# Altium footprint library PilotMap2.PcbLib: 9 footprints
Each footprint in its own frame and in the unit in brackets; x right, y up, seen from the top. Pads: shape width x height; smd on the part's side, far side on the other; paste and mask are expansions set on the pad; w line width, h text height; cw(c..) or ccw(c..) is an arc to the next point about the centre after c.
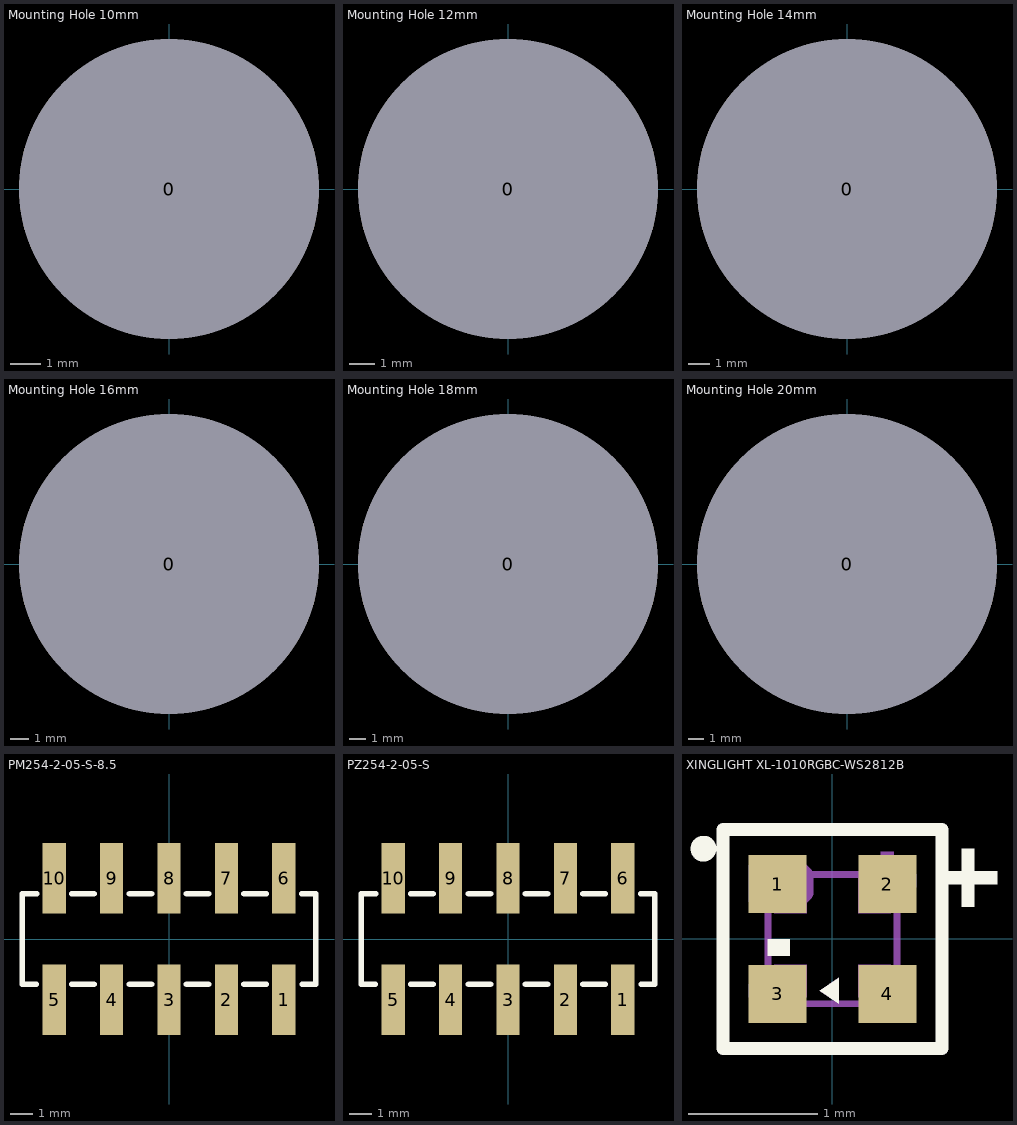
[diagram p0: the footprints below, top view; thin cyan lines are the x and y axes]

## Mounting Hole 10mm [mm]
pads (1):
  round 10 hole 10: 0(0,0)

## Mounting Hole 12mm [mm]
pads (1):
  round 12 hole 12: 0(0,0)

## Mounting Hole 14mm [mm]
pads (1):
  round 14 hole 14: 0(0,0)

## Mounting Hole 16mm [mm]
pads (1):
  round 16 hole 16: 0(0,0)

## Mounting Hole 18mm [mm]
pads (1):
  round 18 hole 18: 0(0,0)

## Mounting Hole 20mm [mm]
pads (1):
  round 20 hole 20: 0(0,0)

## PM254-2-05-S-8.5 [mm]
height 9.4
pads (10):
  rect 1.02x3.12 smd: 1(5.08,-2.69) 2(2.54,-2.69) 3(0,-2.69) 4(-2.54,-2.69) 5(-5.08,-2.69) 6(5.08,2.69) 7(2.54,2.69) 8(0,2.69) 9(-2.54,2.69) 10(-5.08,2.69)
Top Overlay:
  lines w0.254: -5.875,-2 -6.5,-2 -6.5,2 -5.85,2 ; -4.3,-2 -3.325,-2 ; -4.3,2 -3.325,2 ; -1.75,-2 -0.775,-2 ; -1.75,2 -0.775,2 ; 0.775,-2 1.75,-2 ; 0.775,2 1.75,2 ; 3.325,-2 4.3,-2 ; 3.325,2 4.3,2 ; 5.875,2 6.5,2 6.5,-2 5.9,-2
3D body "Harwin-M20-Double-Row-SMT-10P.STEP": height 7.5, standoff -0.03, extent -6.36,-3.21 6.34,3.37

## PZ254-2-05-S [mm]
height 9.2
pads (10):
  rect 1.02x3.12 smd: 1(5.08,-2.69) 2(2.54,-2.69) 3(0,-2.69) 4(-2.54,-2.69) 5(-5.08,-2.69) 6(5.08,2.69) 7(2.54,2.69) 8(0,2.69) 9(-2.54,2.69) 10(-5.08,2.69)
Top Overlay:
  lines w0.254: -5.875,-2 -6.5,-2 -6.5,2 -5.85,2 ; -4.3,-2 -3.325,-2 ; -4.3,2 -3.325,2 ; -1.75,-2 -0.775,-2 ; -1.75,2 -0.775,2 ; 0.775,-2 1.75,-2 ; 0.775,2 1.75,2 ; 3.325,-2 4.3,-2 ; 3.325,2 4.3,2 ; 5.875,2 6.5,2 6.5,-2 5.9,-2
3D body "User Library-Molex - 15-91-0100 (Pin Header 2_54mm 10 Pin).step": height 9.66, standoff 0, extent -6.35,-3.5 6.35,3.5

## XINGLIGHT XL-1010RGBC-WS2812B [mm]
pads (4):
  rect 0.45x0.45 smd paste+0 mask+0.051: 1(-0.425,0.425) 2(0.425,0.425) 3(-0.425,-0.425) 4(0.425,-0.425)
Top Overlay:
  circle w0.1: c-1,0.7 r0.05
  region: -0.5,0 -0.5,-0.13 -0.34,-0.13 -0.33,-0.13 -0.33,0
  region: 0.825,0.525 0.825,0.425 1.275,0.425 1.275,0.525
  region: 1,0.25 1.1,0.25 1.1,0.7 1,0.7
  region: 0.05,-0.5 -0.1,-0.4 0.05,-0.3
  lines w0.1: -0.85,-0.85 0.85,-0.85 0.85,0.85 -0.85,0.85 -0.85,-0.85
  text "DI" at 0.35,-0.525 h0.3
  text "DO" at -0.575,0.352 h0.3
Mechanical 6:
  drawing of 12 lines, arcs and shapes, not listed
Mechanical 15:
  region: 0.2,0.45 0.45,0.45 0.45,0.2 0.2,0.2
  region: -0.45,0.2 -0.45,0.45 -0.2,0.45 -0.2,0.2
  region: 0.45,-0.2 0.45,-0.45 0.2,-0.45 0.2,-0.2
  region: -0.2,-0.45 -0.45,-0.45 -0.45,-0.2 -0.2,-0.2
  region: -0.44,0.5 -0.44,0.524 -0.475,0.559 -0.524,0.559 -0.559,0.524 -0.56,0.5 -0.559,0.475 -0.524,0.441 -0.475,0.441 -0.44,0.475
  lines w0.051: -0.5,-0.5 0.5,-0.5 0.5,0.5 -0.5,0.5 -0.5,-0.5
3D body "1010_RGB_LED.step": height 0.8, standoff 0, extent -0.5,-0.5 0.5,0.5